# Altium schematic symbol library HVGD.SchLib: 5 symbols
Pins are listed as number, name and electrical type; pins without a type are passive.

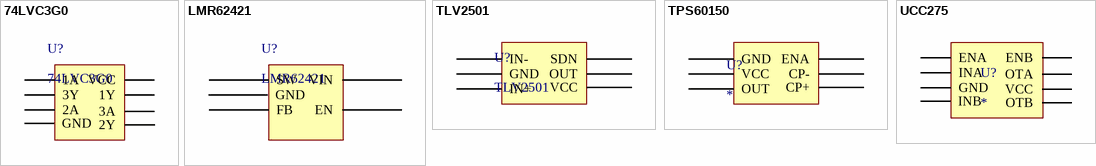
[diagram p0: symbols 74LVC3G0 to UCC275]

## 74LVC3G0
designator U?
footprint DUC8
pins: 1 1A, 2 3Y, 3 2A, 4 GND, 5 2Y, 6 3A, 7 1Y, 8 VCC

## LMR62421
designator U?
footprint SOT235
pins: 1 SW, 2 GND, 3 FB, 4 EN, 5 VIN

## TLV2501
designator U?
footprint SOT236
pins: 1 IN-, 2 GND, 3 IN+, 4 VCC, 5 OUT, 6 SDN

## TPS60150
designator U?
footprint DFN6
pins: 1 GND, 2 VCC, 3 OUT, 4 CP+, 5 CP-, 6 ENA

## UCC275
designator U?
footprint DFN8
pins: 1 ENA, 2 INA, 3 GND, 4 INB, 5 OTB, 6 VCC, 7 OTA, 8 ENB